# Altium footprint library IC_SMD_QUAD.PCBLIB: 135 footprints (part 6 of 9)
Each footprint in its own frame and in the unit in brackets; x right, y up, seen from the top. Pads: shape width x height; smd on the part's side, far side on the other; paste and mask are expansions set on the pad; w line width, h text height; cw(c..) or ccw(c..) is an arc to the next point about the centre after c.
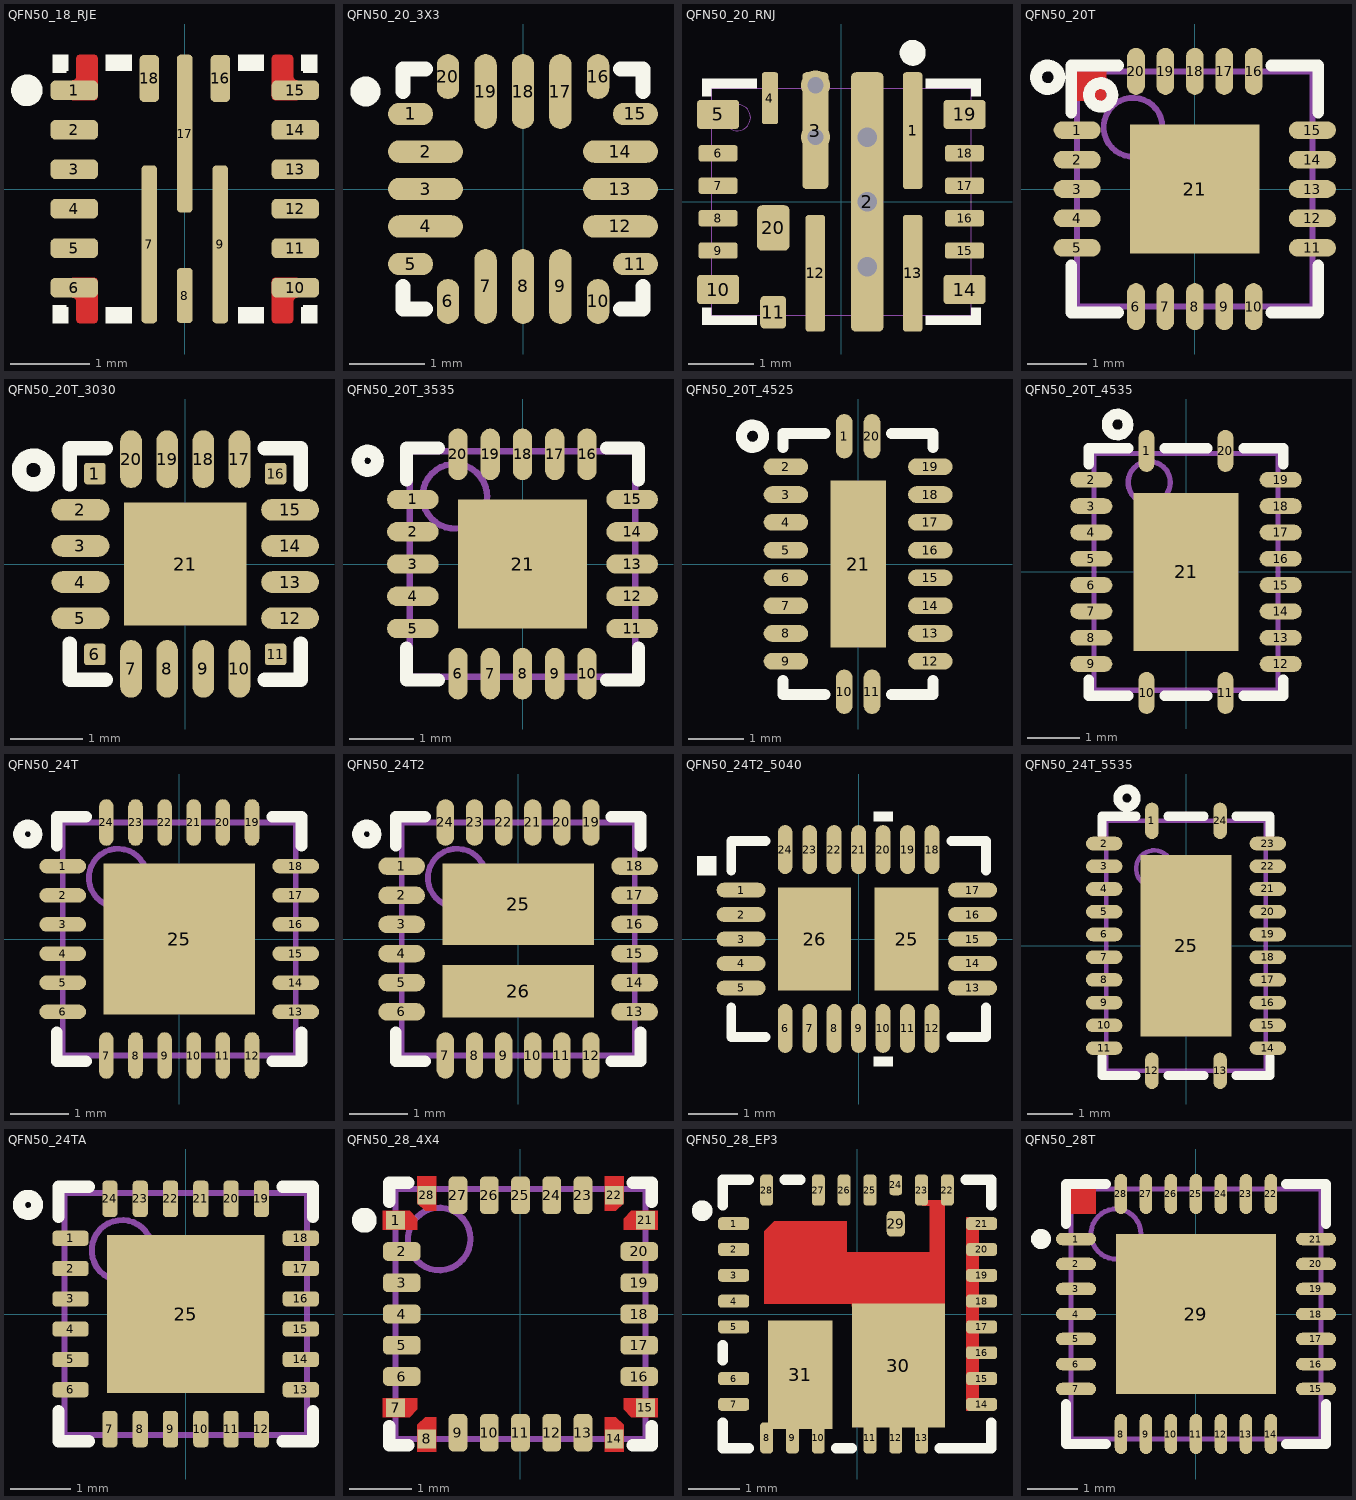
[diagram p5: the footprints below, top view; thin cyan lines are the x and y axes]

## QFN50_18_RJE [mm] "VQFN RJE, 18-Leads, Body 3x3mm, Pitch 0.50mm"
height 1
pads (18):
  rrect50% 0.6x0.25 smd paste-0.025 mask+0.05: 1(-1.4,1.25) 2(-1.4,0.75) 3(-1.4,0.25) 4(-1.4,-0.25) 5(-1.4,-0.75) 6(-1.4,-1.25) 10(1.4,-1.25) 11(1.4,-0.75) 12(1.4,-0.25) 13(1.4,0.25) 14(1.4,0.75) 15(1.4,1.25)
  rrect50% 0.2x2 smd mask+0.05: 7(-0.45,-0.701) 9(0.45,-0.701) 17(0,0.701)
  rrect50% 0.2x0.7 smd mask+0.05: 8(0,-1.349)
  rrect50% 0.25x0.6 smd paste-0.025 mask+0.05: 16(0.45,1.4) 18(-0.45,1.4)
TopLayer:
  region: -1.425,1.125 -1.15,1.125 -1.14,1.125 -1.122,1.133 -1.108,1.147 -1.1,1.165 -1.1,1.175 -1.1,1.65 -1.1,1.66 -1.108,1.678 -1.122,1.692 -1.14,1.7 -1.15,1.7 -1.325,1.7 -1.335,1.7 -1.353,1.692 -1.367,1.678 -1.375,1.66 -1.375,1.65 -1.375,1.425 -1.376,1.415 -1.383,1.397 -1.397,1.383 -1.415,1.376 -1.425,1.375
  region: 1.425,1.125 1.15,1.125 1.14,1.125 1.122,1.133 1.108,1.147 1.1,1.165 1.1,1.175 1.1,1.65 1.1,1.66 1.108,1.678 1.122,1.692 1.14,1.7 1.15,1.7 1.325,1.7 1.335,1.7 1.353,1.692 1.367,1.678 1.375,1.66 1.375,1.65 1.375,1.425 1.376,1.415 1.383,1.397 1.397,1.383 1.415,1.376 1.425,1.375
  region: -1.425,-1.125 -1.15,-1.125 -1.14,-1.125 -1.122,-1.133 -1.108,-1.147 -1.1,-1.165 -1.1,-1.175 -1.1,-1.65 -1.1,-1.66 -1.108,-1.678 -1.122,-1.692 -1.14,-1.7 -1.15,-1.7 -1.325,-1.7 -1.335,-1.7 -1.353,-1.692 -1.367,-1.678 -1.375,-1.66 -1.375,-1.65 -1.375,-1.425 -1.376,-1.415 -1.383,-1.397 -1.397,-1.383 -1.415,-1.376 -1.425,-1.375
  region: 1.425,-1.125 1.15,-1.125 1.14,-1.125 1.122,-1.133 1.108,-1.147 1.1,-1.165 1.1,-1.175 1.1,-1.65 1.1,-1.66 1.108,-1.678 1.122,-1.692 1.14,-1.7 1.15,-1.7 1.325,-1.7 1.335,-1.7 1.353,-1.692 1.367,-1.678 1.375,-1.66 1.375,-1.65 1.375,-1.425 1.376,-1.415 1.383,-1.397 1.397,-1.383 1.415,-1.376 1.425,-1.375
TopOverlay:
  circle w0.2: c-2,1.25 r0.1
  region: -1.475,1.5 -1.475,1.7 -1.675,1.7 -1.675,1.475 -1.5,1.475 -1.5,1.5
  region: 1.475,1.5 1.475,1.7 1.675,1.7 1.675,1.475 1.5,1.475 1.5,1.5
  region: -1.475,-1.5 -1.475,-1.7 -1.675,-1.7 -1.675,-1.475 -1.5,-1.475 -1.5,-1.5
  region: 1.475,-1.5 1.475,-1.7 1.675,-1.7 1.675,-1.475 1.5,-1.475 1.5,-1.5
  region: -1,1.7 -0.675,1.7 -0.675,1.5 -1,1.5
  region: 1,1.7 0.675,1.7 0.675,1.5 1,1.5
  region: -1,-1.7 -0.675,-1.7 -0.675,-1.5 -1,-1.5
  region: 1,-1.7 0.675,-1.7 0.675,-1.5 1,-1.5
TopPaste:
  region: -1.125,1.25 -1.125,1.625 -1.125,1.635 -1.133,1.653 -1.147,1.667 -1.165,1.675 -1.175,1.675 -1.3,1.675 -1.31,1.675 -1.328,1.667 -1.342,1.653 -1.35,1.635 -1.35,1.625 -1.35,1.375 -1.35,1.37 -1.354,1.361 -1.361,1.354 -1.37,1.35 -1.375,1.35 -1.375,1.25
  region: 1.125,1.25 1.125,1.625 1.125,1.635 1.133,1.653 1.147,1.667 1.165,1.675 1.175,1.675 1.3,1.675 1.31,1.675 1.328,1.667 1.342,1.653 1.35,1.635 1.35,1.625 1.35,1.375 1.35,1.37 1.354,1.361 1.361,1.354 1.37,1.35 1.375,1.35 1.375,1.25
  region: -1.125,-1.25 -1.125,-1.625 -1.125,-1.635 -1.133,-1.653 -1.147,-1.667 -1.165,-1.675 -1.175,-1.675 -1.3,-1.675 -1.31,-1.675 -1.328,-1.667 -1.342,-1.653 -1.35,-1.635 -1.35,-1.625 -1.35,-1.375 -1.35,-1.37 -1.354,-1.361 -1.361,-1.354 -1.37,-1.35 -1.375,-1.35 -1.375,-1.25
  region: 1.125,-1.25 1.125,-1.625 1.125,-1.635 1.133,-1.653 1.147,-1.667 1.165,-1.675 1.175,-1.675 1.3,-1.675 1.31,-1.675 1.328,-1.667 1.342,-1.653 1.35,-1.635 1.35,-1.625 1.35,-1.375 1.35,-1.37 1.354,-1.361 1.361,-1.354 1.37,-1.35 1.375,-1.35 1.375,-1.25
TopSolder:
  region: -1.175,1.075 -1.15,1.075 -1.104,1.094 -1.069,1.129 -1.05,1.175 -1.05,1.2 -1.05,1.65 -1.05,1.67 -1.065,1.707 -1.093,1.735 -1.13,1.75 -1.15,1.75 -1.325,1.75 -1.345,1.75 -1.382,1.735 -1.41,1.707 -1.425,1.67 -1.425,1.65 -1.425,1.5 -1.426,1.485 -1.438,1.458 -1.458,1.438 -1.485,1.426 -1.5,1.425 -1.5,1.075
  region: 1.175,1.075 1.15,1.075 1.104,1.094 1.069,1.129 1.05,1.175 1.05,1.2 1.05,1.65 1.05,1.67 1.065,1.707 1.093,1.735 1.13,1.75 1.15,1.75 1.325,1.75 1.345,1.75 1.382,1.735 1.41,1.707 1.425,1.67 1.425,1.65 1.425,1.5 1.426,1.485 1.438,1.458 1.458,1.438 1.485,1.426 1.5,1.425 1.5,1.075
  region: -1.175,-1.075 -1.15,-1.075 -1.104,-1.094 -1.069,-1.129 -1.05,-1.175 -1.05,-1.2 -1.05,-1.65 -1.05,-1.67 -1.065,-1.707 -1.093,-1.735 -1.13,-1.75 -1.15,-1.75 -1.325,-1.75 -1.345,-1.75 -1.382,-1.735 -1.41,-1.707 -1.425,-1.67 -1.425,-1.65 -1.425,-1.5 -1.426,-1.485 -1.438,-1.458 -1.458,-1.438 -1.485,-1.426 -1.5,-1.425 -1.5,-1.075
  region: 1.175,-1.075 1.15,-1.075 1.104,-1.094 1.069,-1.129 1.05,-1.175 1.05,-1.2 1.05,-1.65 1.05,-1.67 1.065,-1.707 1.093,-1.735 1.13,-1.75 1.15,-1.75 1.325,-1.75 1.345,-1.75 1.382,-1.735 1.41,-1.707 1.425,-1.67 1.425,-1.65 1.425,-1.5 1.426,-1.485 1.438,-1.458 1.458,-1.438 1.485,-1.426 1.5,-1.425 1.5,-1.075
3D body "RJE0018B.stp": height 1, standoff 0, extent -1.5,-1.5 1.5,1.5

## QFN50_20_3X3 [mm] "UFQFPN20, pitch: 0.5mm, 3x3mm"
height 0.6
pads (20):
  oval 0.6x0.3 smd paste+0 mask+0: 1(-1.499,1) 5(-1.499,-1) 11(1.499,-1) 15(1.499,1)
  oval 1x0.3 smd paste+0 mask+0: 2(-1.3,0.5) 3(-1.3,0) 4(-1.3,-0.5) 12(1.3,-0.5) 13(1.3,0) 14(1.3,0.5)
  oval 0.3x0.6 smd paste+0 mask+0: 6(-1,-1.499) 10(1,-1.499) 16(1,1.499) 20(-1,1.499)
  oval 0.3x1 smd paste+0 mask+0: 7(-0.5,-1.3) 8(0,-1.3) 9(0.5,-1.3) 17(0.5,1.3) 18(0,1.3) 19(-0.5,1.3)
TopOverlay:
  circle w0.2: c-2.1,1.3 r0.1
  lines w0.2: -1.6,-1.3 -1.6,-1.6 -1.3,-1.6 ; -1.6,1.3 -1.6,1.6 -1.3,1.6 ; 1.3,-1.6 1.6,-1.6 1.6,-1.3 ; 1.3,1.6 1.6,1.6 1.6,1.3
3D body "UFQFPN20_3x3x0p6-M.step": height 0.61, standoff 0, extent -1.499,-1.499 1.499,1.499

## QFN50_20_RNJ [mm] "VQFN RNJ, 20-Leads, Body 3.5x4mm, Pitch 0.50mm"
height 4.4
pads (20):
  rrect30% 0.3x1.8 smd mask+0.05: 1(1.1,1.1) 12(-0.4,-1.1) 13(1.1,-1.1)
  rrect30% 0.5x4 smd mask+0.05: 2(0.4,0)
  rrect30% 0.4x1.8 smd mask+0.05: 3(-0.4,1.1)
  rrect30% 0.25x0.8 smd mask+0.05: 4(-1.1,1.6)
  rrect25% 0.65x0.45 smd mask+0.05: 5(-1.9,1.35) 10(-1.9,-1.35) 14(1.9,-1.35) 19(1.9,1.35)
  rrect30% 0.6x0.25 smd mask+0.05: 6(-1.9,0.75) 7(-1.9,0.25) 8(-1.9,-0.25) 9(-1.9,-0.75) 15(1.9,-0.75) 16(1.9,-0.25) 17(1.9,0.25) 18(1.9,0.75)
  rrect30% 0.4x0.5 smd mask+0.05: 11(-1.05,-1.7)
  rrect30% 0.5x0.7 smd mask+0.05: 20(-1.05,-0.4)
via 0.4,-1 diameter 0.5 hole 0.3
via 0.4,0 diameter 0.5 hole 0.3
via 0.4,1 diameter 0.5 hole 0.3
via -0.4,1 diameter 0.45 hole 0.25
via -0.4,1.8 diameter 0.45 hole 0.25
TopOverlay:
  circle w0.2: c1.1,2.3 r0.1
  rectangle: 1.3,-1.9 2.15,-1.75
  rectangle: 2,-1.9 2.15,-1.625
  region: -1.3,-1.75 -2.15,-1.75 -2.15,-1.9 -1.3,-1.9
  region: -2,-1.625 -2.15,-1.625 -2.15,-1.9 -2,-1.9
  region: -1.3,1.9 -2.15,1.9 -2.15,1.75 -1.3,1.75
  region: -2,1.9 -2.15,1.9 -2.15,1.625 -2,1.625
  rectangle: 2,1.625 2.15,1.9
  rectangle: 1.3,1.75 2.15,1.9
Mechanical13:
  circle w0.01: c-1.6,1.3 r0.2
  lines w0.01: -2,-1.75 -2,1.75 2,1.75 2,-1.75 -2,-1.75
3D body "RNJ0020A.stp": height 1, standoff 0, extent -2,-1.75 2,1.75

## QFN50_20T [mm] "QFN, 20, 4X4mm, 0.5mm"
height 1
pads (21):
  oval 0.8x0.3 smd mask+0.05: 1(-2,1) 2(-2,0.5) 3(-2,0) 4(-2,-0.5) 5(-2,-1) 11(2,-1) 12(2,-0.5) 13(2,0) 14(2,0.5) 15(2,1)
  oval 0.3x0.8 smd mask+0.05: 6(-1,-2) 7(-0.5,-2) 8(0,-2) 9(0.5,-2) 10(1,-2) 16(1,2) 17(0.5,2) 18(0,2) 19(-0.5,2) 20(-1,2)
  rect 2.2x2.2 smd paste-2 mask+0.1: 21(0,0)
TopLayer:
  rectangle: -2,1.5 -1.5,2
TopOverlay:
  circle w0.2: c-2.5,1.9 r0.2
  circle w0.2: c-1.6,1.6 r0.2
  lines w0.2: -2.1,-1.3 -2.1,-2.1 -1.3,-2.1 ; -2.1,1.3 -2.1,2.1 -1.3,2.1 ; 1.3,-2.1 2.1,-2.1 2.1,-1.3 ; 1.3,2.1 2.1,2.1 2.1,1.3
TopPaste:
  rectangle: -1,0.2 -0.2,1
  region: 1,1 0.2,1 0.2,0.2 1,0.2
  region: 1,-0.2 0.2,-0.2 0.2,-1 1,-1
  rectangle: -1,-1 -0.2,-0.2
Mechanical13:
  circle w0.1: c-1.05,1.05 r0.5
  lines w0.1: -2,-2 2,-2 2,2 -2,2 -2,-2
3D body: height 1, standoff 0, extent -2,-2 2,2

## QFN50_20T_3030 [mm] "QFN20, pitch: 0.5mm, 3x3mm"
height 0.6
pads (21):
  rrect30% 0.3x0.3 smd mask+0.05: 1(-1.25,1.25) 6(-1.25,-1.25) 11(1.25,-1.25) 16(1.25,1.25)
  oval 0.8x0.3 smd mask+0.05: 2(-1.45,0.75) 3(-1.45,0.25) 4(-1.45,-0.25) 5(-1.45,-0.75) 12(1.45,-0.75) 13(1.45,-0.25) 14(1.45,0.25) 15(1.45,0.75)
  oval 0.3x0.8 smd mask+0.05: 7(-0.75,-1.45) 8(-0.25,-1.45) 9(0.25,-1.45) 10(0.75,-1.45) 17(0.75,1.45) 18(0.25,1.45) 19(-0.25,1.45) 20(-0.75,1.45)
  rect 1.7x1.7 smd paste-3 mask+0.05: 21(0,0)
TopOverlay:
  circle w0.2: c-2.1,1.3 r0.2
  lines w0.2: -1.6,-1.1 -1.6,-1.6 -1.1,-1.6 ; -1.6,1.1 -1.6,1.6 -1.1,1.6 ; 1.1,-1.6 1.6,-1.6 1.6,-1.1 ; 1.1,1.6 1.6,1.6 1.6,1.1
TopPaste:
  rectangle: -0.5,-0.5 0.5,0.5
3D body "SW3dPS-QFN-20.STEP": height 0.62, standoff -0.08, extent -1.5,-1.5 1.5,1.5

## QFN50_20T_3535 [mm] "QFN, 20, RGR, VQFN, 3.5X3.5mm, 0.5mm"
height 1
pads (21):
  oval 0.8x0.3 smd mask+0.05: 1(-1.7,1) 2(-1.7,0.5) 3(-1.7,0) 4(-1.7,-0.5) 5(-1.7,-1) 11(1.7,-1) 12(1.7,-0.5) 13(1.7,0) 14(1.7,0.5) 15(1.7,1)
  oval 0.3x0.8 smd mask+0.05: 6(-1,-1.7) 7(-0.5,-1.7) 8(0,-1.7) 9(0.5,-1.7) 10(1,-1.7) 16(1,1.7) 17(0.5,1.7) 18(0,1.7) 19(-0.5,1.7) 20(-1,1.7)
  rect 2x2 smd paste-3 mask+0.075: 21(0,0)
TopOverlay:
  circle w0.2: c-2.4,1.6 r0.15
  lines w0.2: -1.8,-1.3 -1.8,-1.8 -1.3,-1.8 ; -1.8,1.3 -1.8,1.8 -1.3,1.8 ; 1.3,-1.8 1.8,-1.8 1.8,-1.3 ; 1.3,1.8 1.8,1.8 1.8,1.3
TopPaste:
  rectangle: -0.8,0.1 -0.1,0.8
  region: 0.8,0.8 0.1,0.8 0.1,0.1 0.8,0.1
  region: 0.8,-0.1 0.1,-0.1 0.1,-0.8 0.8,-0.8
  rectangle: -0.8,-0.8 -0.1,-0.1
Mechanical13:
  circle w0.1: c-1.05,1.05 r0.5
  lines w0.1: -1.75,-1.75 1.75,-1.75 1.75,1.75 -1.75,1.75 -1.75,-1.75
3D body "RGR0020A.stp": height 1, standoff 0, extent -1.75,-1.75 1.75,1.75

## QFN50_20T_4525 [mm] "RKS VQFN-20, 0.5mm Pitch, 4.5x2.5x1mm"
height 1
pads (21):
  oval 0.3x0.8 smd mask+0.075: 1(-0.25,2.3) 10(-0.25,-2.3) 11(0.25,-2.3) 20(0.25,2.3)
  oval 0.8x0.3 smd mask+0.075: 2(-1.3,1.75) 3(-1.3,1.25) 4(-1.3,0.75) 5(-1.3,0.25) 6(-1.3,-0.25) 7(-1.3,-0.75) 8(-1.3,-1.25) 9(-1.3,-1.75) 12(1.3,-1.75) 13(1.3,-1.25) 14(1.3,-0.75) 15(1.3,-0.25) 16(1.3,0.25) 17(1.3,0.75) 18(1.3,1.25) 19(1.3,1.75)
  rect 1x3 smd paste-3 mask+0.1: 21(0,0)
TopOverlay:
  circle w0.2: c-1.9,2.3 r0.2
  lines w0.2: -1.35,-2.1 -1.35,-2.35 -0.6,-2.35 ; -1.35,2.1 -1.35,2.35 -0.6,2.35 ; 0.6,-2.35 1.35,-2.35 1.35,-2.1 ; 0.6,2.35 1.35,2.35 1.35,2.1
TopPaste:
  rectangle: -0.4,-1.4 0.4,-0.2
  rectangle: -0.4,0.2 0.4,1.4
3D body "RKS0020A.stp": height 1, standoff 0, extent -1.25,-2.25 1.25,2.25

## QFN50_20T_4535 [mm] "RGY VQFN-20, 0.5mm Pitch, 4.5x3.5x1mm"
height 1
pads (21):
  oval 0.3x0.8 smd mask+0.05: 1(-0.75,2.3) 10(-0.75,-2.3) 11(0.75,-2.3) 20(0.75,2.3)
  oval 0.8x0.3 smd mask+0.05: 2(-1.8,1.75) 3(-1.8,1.25) 4(-1.8,0.75) 5(-1.8,0.25) 6(-1.8,-0.25) 7(-1.8,-0.75) 8(-1.8,-1.25) 9(-1.8,-1.75) 12(1.8,-1.75) 13(1.8,-1.25) 14(1.8,-0.75) 15(1.8,-0.25) 16(1.8,0.25) 17(1.8,0.75) 18(1.8,1.25) 19(1.8,1.75)
  rect 2x3 smd paste-3 mask+0.1: 21(0,0)
TopOverlay:
  circle w0.2: c-1.3,2.8 r0.2
  lines w0.2: -1.85,-2.05 -1.85,-2.35 -1.1,-2.35 ; -1.85,2.05 -1.85,2.35 -1.1,2.35 ; -0.4,-2.35 0.4,-2.35 ; -0.4,2.35 0.4,2.35 ; 1.1,-2.35 1.85,-2.35 1.85,-2.05 ; 1.1,2.35 1.85,2.35 1.85,2.05
TopPaste:
  rectangle: -0.9,-1.4 -0.2,-0.2
  region: 0.9,-0.2 0.2,-0.2 0.2,-1.4 0.9,-1.4
  region: 0.9,1.4 0.2,1.4 0.2,0.2 0.9,0.2
  rectangle: -0.9,0.2 -0.2,1.4
Mechanical13:
  circle w0.1: c-0.7,1.7 r0.4
  lines w0.1: -1.75,-2.25 1.75,-2.25 1.75,2.25 -1.75,2.25 -1.75,-2.25
3D body "RGY0020G.stp": height 1, standoff 0, extent -1.75,-2.25 1.75,2.25

## QFN50_24T [mm] "RTW, RGE S-PQFP-N24 (TI), HVQFN24, 4X4mm, 0.5mm, MO-220 (JEDEC)"
height 1
pads (25):
  oval 0.8x0.25 smd mask+0.05: 1(-2,1.25) 2(-2,0.75) 3(-2,0.25) 4(-2,-0.25) 5(-2,-0.75) 6(-2,-1.25) 13(2,-1.25) 14(2,-0.75) 15(2,-0.25) 16(2,0.25) 17(2,0.75) 18(2,1.25)
  oval 0.25x0.8 smd mask+0.05: 7(-1.25,-2) 8(-0.75,-2) 9(-0.25,-2) 10(0.25,-2) 11(0.75,-2) 12(1.25,-2) 19(1.25,2) 20(0.75,2) 21(0.25,2) 22(-0.25,2) 23(-0.75,2) 24(-1.25,2)
  rect 2.6x2.6 smd paste-2 mask+0.05: 25(0,0)
TopOverlay:
  circle w0.2: c-2.6,1.8 r0.15
  lines w0.2: -2.1,-1.6 -2.1,-2.1 -1.6,-2.1 ; -2.1,1.6 -2.1,2.1 -1.6,2.1 ; 1.6,-2.1 2.1,-2.1 2.1,-1.6 ; 1.6,2.1 2.1,2.1 2.1,1.6
TopPaste:
  rectangle: -1.1,0.2 -0.2,1.1
  region: 1.1,1.1 0.2,1.1 0.2,0.2 1.1,0.2
  region: 1.1,-0.2 0.2,-0.2 0.2,-1.1 1.1,-1.1
  rectangle: -1.1,-1.1 -0.2,-0.2
Mechanical13:
  circle w0.1: c-1.05,1.05 r0.5
  lines w0.1: -2,-2 2,-2 2,2 -2,2 -2,-2
3D body "RTW0024H.stp": height 0.8, standoff 0, extent -2,-2 2,2

## QFN50_24T2 [mm] "MO-220-WGGD (JEDEC), LFCSP_WQ, CP - 24 - 12, ADP2386 (AD)"
height 1
pads (26):
  oval 0.8x0.3 smd mask+0.05: 1(-2,1.25) 2(-2,0.75) 3(-2,0.25) 4(-2,-0.25) 5(-2,-0.75) 6(-2,-1.25) 13(2,-1.25) 14(2,-0.75) 15(2,-0.25) 16(2,0.25) 17(2,0.75) 18(2,1.25)
  oval 0.3x0.8 smd mask+0.05: 7(-1.25,-2) 8(-0.75,-2) 9(-0.25,-2) 10(0.25,-2) 11(0.75,-2) 12(1.25,-2) 19(1.25,2) 20(0.75,2) 21(0.25,2) 22(-0.25,2) 23(-0.75,2) 24(-1.25,2)
  rect 2.6x1.4 smd paste-3 mask+0.05: 25(0,0.6)
  rect 2.6x0.9 smd paste-3 mask+0.05: 26(0,-0.9)
TopOverlay:
  circle w0.2: c-2.6,1.8 r0.15
  lines w0.2: -2.1,-1.6 -2.1,-2.1 -1.6,-2.1 ; -2.1,1.6 -2.1,2.1 -1.6,2.1 ; 1.6,-2.1 2.1,-2.1 2.1,-1.6 ; 1.6,2.1 2.1,2.1 2.1,1.6
TopPaste:
  rectangle: -1.2,-1.2 -0.2,-0.5
  region: 1.2,-0.5 0.2,-0.5 0.2,-1.2 1.2,-1.2
  region: 1.2,1.2 0.2,1.2 0.2,0 1.2,0
  rectangle: -1.2,0 -0.2,1.2
Mechanical13:
  circle w0.1: c-1.05,1.05 r0.5
  lines w0.1: -2,-2 2,-2 2,2 -2,2 -2,-2
3D body: height 1, standoff 0, extent -2,-2 2,2

## QFN50_24T2_5040 [mm] "CP-24-4, QFN-24, 0.5mm pitch, 5x4x1.5mm"
height 1.5
pads (26):
  oval 1x0.3 smd mask+0.05: 1(-2.4,1) 2(-2.4,0.5) 3(-2.4,0) 4(-2.4,-0.5) 5(-2.4,-1) 13(2.327,-1) 14(2.327,-0.5) 15(2.327,0) 16(2.327,0.5) 17(2.327,1)
  oval 0.3x1 smd mask+0.05: 6(-1.5,-1.827) 7(-1,-1.827) 8(-0.5,-1.827) 9(0,-1.827) 10(0.5,-1.827) 11(1,-1.827) 12(1.5,-1.827) 18(1.5,1.827) 19(1,1.827) 20(0.5,1.827) 21(0,1.827) 22(-0.5,1.827) 23(-1,1.827) 24(-1.5,1.827)
  rect 1.3x2.1 smd paste-3 mask+0.05: 25(0.98,0)
  rect 1.5x2.1 smd paste-3 mask+0.05: 26(-0.9,0)
TopOverlay:
  rectangle: -3.3,1.3 -2.9,1.7
  rectangle: 0.3,-2.6 0.7,-2.4
  rectangle: 0.3,2.4 0.7,2.6
  lines w0.2: -2.6,-1.4 -2.6,-2 -1.9,-2 ; -2.6,1.4 -2.6,2 -1.9,2 ; 1.9,-2 2.6,-2 2.6,-1.4 ; 1.9,2 2.6,2 2.6,1.4
TopPaste:
  rectangle: -0.8,0.2 -0.2,1
  rectangle: -1.6,0.2 -1,1
  rectangle: -1.6,-1 -1,-0.2
  rectangle: -0.8,-1 -0.2,-0.2
  region: 1.5,-0.2 0.5,-0.2 0.5,-1 1.5,-1
  region: 1.5,1 0.5,1 0.5,0.2 1.5,0.2
3D body "cp_24_4.step": height 1.4, standoff 0, extent -2.5,-2 2.5,2

## QFN50_24T_5535 [mm] "RGY RHL VQFN-24, 0.5mm Pitch, 5.5x3.5x1mm"
height 1
pads (25):
  oval 0.3x0.8 smd paste-0.05 mask+0.05: 1(-0.75,2.75) 12(-0.75,-2.75) 13(0.75,-2.75) 24(0.75,2.75)
  oval 0.8x0.3 smd mask-2539.97: 2(-1.8,2.25) 3(-1.8,1.75) 4(-1.8,1.25) 5(-1.8,0.75) 6(-1.8,0.25) 7(-1.8,-0.25) 8(-1.8,-0.75) 9(-1.8,-1.25) 10(-1.8,-1.75) 11(-1.8,-2.25) 14(1.8,-2.25) 15(1.8,-1.75) 16(1.8,-1.25) 17(1.8,-0.75) 18(1.8,-0.25) 19(1.8,0.25) 20(1.8,0.75) 21(1.8,1.25) 22(1.8,1.75) 23(1.8,2.25)
  rect 2x4 smd paste-3 mask+0.05: 25(0,0)
TopOverlay:
  circle w0.2: c-1.3,3.25 r0.2
  lines w0.2: -1.85,-2.45 -1.85,-2.85 -1.1,-2.85 ; -1.85,2.45 -1.85,2.85 -1.1,2.85 ; -0.4,-2.85 0.4,-2.85 ; -0.4,2.85 0.4,2.85 ; 1.1,-2.85 1.85,-2.85 1.85,-2.45 ; 1.1,2.85 1.85,2.85 1.85,2.45
TopPaste:
  region: 0.95,-0.887 0.635,-0.887 0.494,-1.029 0.494,-1.475 0.95,-1.475
  region: 0.95,-0.1 0.635,-0.1 0.494,-0.241 0.494,-0.546 0.635,-0.687 0.95,-0.687
  region: 0.95,0.687 0.635,0.687 0.494,0.546 0.494,0.241 0.635,0.1 0.95,0.1
  region: 0.95,1.475 0.494,1.475 0.494,1.029 0.635,0.887 0.95,0.887
  region: 0.152,-0.887 -0.152,-0.887 -0.294,-1.029 -0.294,-1.475 0.294,-1.475 0.294,-1.029
  region: 0.152,-0.1 -0.152,-0.1 -0.294,-0.241 -0.294,-0.546 -0.152,-0.687 0.152,-0.687 0.294,-0.546 0.294,-0.241
  region: 0.152,0.687 -0.152,0.687 -0.294,0.546 -0.294,0.241 -0.152,0.1 0.152,0.1 0.294,0.241 0.294,0.546
  region: 0.294,1.475 -0.294,1.475 -0.294,1.029 -0.152,0.887 0.152,0.887 0.294,1.029
  region: -0.635,-0.887 -0.95,-0.887 -0.95,-1.475 -0.494,-1.475 -0.494,-1.029
  region: -0.635,-0.1 -0.95,-0.1 -0.95,-0.687 -0.635,-0.687 -0.494,-0.546 -0.494,-0.241
  region: -0.635,0.687 -0.95,0.687 -0.95,0.1 -0.635,0.1 -0.494,0.241 -0.494,0.546
  region: -0.494,1.475 -0.95,1.475 -0.95,0.887 -0.635,0.887 -0.494,1.029
  region: 0,-1.55
  region: 0,-1.55
  region: 0,1.55
  region: 0,1.55
TopSolder:
  lines w0.35: -2.075,-2.25 -1.525,-2.25 ; -2.075,-1.75 -1.525,-1.75 ; -2.075,-1.25 -1.525,-1.25 ; -2.075,-0.75 -1.525,-0.75 ; -2.075,-0.25 -1.525,-0.25 ; -2.075,0.25 -1.525,0.25 ; -2.075,0.75 -1.525,0.75 ; -2.075,1.25 -1.525,1.25 ; -2.075,1.75 -1.525,1.75 ; -2.075,2.25 -1.525,2.25 ; 1.525,-2.25 2.075,-2.25 ; 1.525,-1.75 2.075,-1.75 ; 1.525,-1.25 2.075,-1.25 ; 1.525,-0.75 2.075,-0.75 ; 1.525,-0.25 2.075,-0.25 ; 1.525,0.25 2.075,0.25 ; 1.525,0.75 2.075,0.75 ; 1.525,1.25 2.075,1.25 ; 1.525,1.75 2.075,1.75 ; 1.525,2.25 2.075,2.25
Mechanical13:
  circle w0.1: c-0.7,1.7 r0.4
  lines w0.1: -1.75,-2.75 -1.75,2.75 1.75,2.75 1.75,-2.75 -1.75,-2.75
3D body "RHL0024A.stp": height 1, standoff 0, extent -1.75,-2.75 1.75,2.75

## QFN50_24TA [mm] "RTW, RGE S-PQFP-N24 (TI), HVQFN24, 4X4mm, 0.5mm"
height 1
pads (25):
  rrect50% 0.6x0.25 smd mask+0.05: 1(-1.9,1.25) 2(-1.9,0.75) 3(-1.9,0.25) 4(-1.9,-0.25) 5(-1.9,-0.75) 6(-1.9,-1.25) 13(1.9,-1.25) 14(1.9,-0.75) 15(1.9,-0.25) 16(1.9,0.25) 17(1.9,0.75) 18(1.9,1.25)
  rrect50% 0.25x0.6 smd mask+0.05: 7(-1.25,-1.9) 8(-0.75,-1.9) 9(-0.25,-1.9) 10(0.25,-1.9) 11(0.75,-1.9) 12(1.25,-1.9) 19(1.25,1.9) 20(0.75,1.9) 21(0.25,1.9) 22(-0.25,1.9) 23(-0.75,1.9) 24(-1.25,1.9)
  rect 2.6x2.6 smd paste-2 mask+0.05: 25(0,0)
TopOverlay:
  circle w0.2: c-2.6,1.8 r0.15
  lines w0.2: -2.1,-1.6 -2.1,-2.1 -1.6,-2.1 ; -2.1,1.6 -2.1,2.1 -1.6,2.1 ; 1.6,-2.1 2.1,-2.1 2.1,-1.6 ; 1.6,2.1 2.1,2.1 2.1,1.6
TopPaste:
  rectangle: -1.1,0.2 -0.2,1.1
  region: 1.1,1.1 0.2,1.1 0.2,0.2 1.1,0.2
  region: 1.1,-0.2 0.2,-0.2 0.2,-1.1 1.1,-1.1
  rectangle: -1.1,-1.1 -0.2,-0.2
Mechanical13:
  circle w0.1: c-1.05,1.05 r0.5
  lines w0.1: -2,-2 2,-2 2,2 -2,2 -2,-2
3D body "RTW0024H.stp": height 0.8, standoff 0, extent -2,-2 2,2

## QFN50_28_4X4 [mm] "UFQFPN-28, 28, 4X4mm, 0.5mm pitch"
height 1
pads (28):
  rect 0.3x0.3 smd paste-0.15 mask+0: 1(-2,1.5) 7(-2,-1.5) 8(-1.5,-2) 14(1.5,-2) 15(2,-1.5) 21(2,1.5) 22(1.5,1.9) 28(-1.5,1.9)
  rrect50% 0.6x0.3 smd paste-0.025 mask+0.05: 2(-1.9,1) 3(-1.9,0.5) 4(-1.9,0) 5(-1.9,-0.5) 6(-1.9,-1) 16(1.9,-1) 17(1.9,-0.5) 18(1.9,0) 19(1.9,0.5) 20(1.9,1)
  rrect50% 0.3x0.6 smd paste-0.025 mask+0.05: 9(-1,-1.9) 10(-0.5,-1.9) 11(0,-1.9) 12(0.5,-1.9) 13(1,-1.9) 23(1,1.9) 24(0.5,1.9) 25(0,1.9) 26(-0.5,1.9) 27(-1,1.9)
TopLayer:
  region: 1.65,1.525 1.775,1.65 2.2,1.65 2.2,1.35 1.65,1.35
  region: 1.35,2.2 1.65,2.2 1.65,1.775 1.525,1.65 1.35,1.65
  region: 1.35,-2.2 1.65,-2.2 1.65,-1.775 1.525,-1.65 1.35,-1.65
  region: 1.65,-1.525 1.775,-1.65 2.2,-1.65 2.2,-1.35 1.65,-1.35
  region: -1.65,1.525 -1.775,1.65 -2.2,1.65 -2.2,1.35 -1.65,1.35
  region: -1.35,2.2 -1.65,2.2 -1.65,1.775 -1.525,1.65 -1.35,1.65
  region: -1.35,-2.2 -1.65,-2.2 -1.65,-1.775 -1.525,-1.65 -1.35,-1.65
  region: -1.65,-1.525 -1.775,-1.65 -2.2,-1.65 -2.2,-1.35 -1.65,-1.35
TopOverlay:
  circle w0.2: c-2.5,1.5 r0.1
  lines w0.2: -2.1,-1.8 -2.1,-2.1 -1.8,-2.1 ; -2.1,1.8 -2.1,2.1 -1.8,2.1 ; 1.8,-2.1 2.1,-2.1 2.1,-1.8 ; 1.8,2.1 2.1,2.1 2.1,1.8
Mechanical13:
  circle w0.1: c-1.3,1.2 r0.5
  lines w0.1: -2,-2 -2,2 2,2 2,-2 -2,-2
3D body "STM32G031G6U6.stp": height 0.6, standoff 0, extent -2.05,-2.05 2.05,2.05

## QFN50_28_EP3 [mm] "QFN5x5-28L EP3_S"
height 1
pads (31):
  rrect50% 0.6x0.25 smd mask+0.075: 1(-2.389,1.75) 2(-2.389,1.25) 3(-2.389,0.75) 4(-2.389,0.25) 5(-2.389,-0.25) 6(-2.389,-1.25) 7(-2.389,-1.75) 14(2.411,-1.75) 15(2.411,-1.25) 16(2.411,-0.75) 17(2.411,-0.25) 18(2.411,0.25) 19(2.411,0.75) 20(2.411,1.25) 21(2.411,1.75)
  rrect50% 0.25x0.6 smd mask+0.075: 8(-1.75,-2.4) 9(-1.25,-2.4) 10(-0.75,-2.4) 11(0.25,-2.4) 12(0.75,-2.4) 13(1.25,-2.4) 22(1.75,2.4) 23(1.25,2.4) 25(0.25,2.4) 26(-0.25,2.4) 27(-0.75,2.4) 28(-1.75,2.4)
  rrect50% 0.25x0.4 smd mask+0.075: 24(0.75,2.5)
  rrect50% 0.35x0.5 smd mask+0.075: 29(0.75,1.75)
  rect 1.8x2.4 smd paste-4 mask+0.075: 30(0.8,-1)
  rect 1.25x2.1 smd paste-4 mask+0.075: 31(-1.1,-1.175)
TopLayer:
  region: -0.1,0.15 -0.1,0.2 -1.8,0.2 -1.8,1.6 -1.6,1.8 -0.2,1.8 -0.2,1.2 1.411,1.2 1.411,2.1 1.261,2.1 1.261,2.2 1.7,2.2 1.7,0.15
  region: 2.111,1.875 2.361,1.875 2.361,-1.875 2.111,-1.875
TopOverlay:
  circle w0.2: c-3,2 r0.1
  lines w0.2: -2.6,-2.1 -2.6,-2.6 -2.1,-2.6 ; -2.6,-0.9 -2.6,-0.6 ; -2.6,2.1 -2.6,2.6 -2.1,2.6 ; -1.4,2.6 -1.1,2.6 ; -0.4,-2.6 -0.1,-2.6 ; 1.6,-2.6 2.6,-2.6 2.6,-2.1 ; 2.1,2.6 2.6,2.6 2.6,2.1
TopPaste:
  rectangle: 1.4,1.5 1.7,2
  region: -1.7,1.7 -1.7,1.1 -1.1,1.1 -1.1,1.7
  region: -1.1,0.3 -1.1,0.9 -1.7,0.9 -1.7,0.3
  region: -0.6,-1.9 -0.6,-1.4 -1,-1.4 -1,-1.9
  region: -1.2,-1.9 -1.2,-1.4 -1.6,-1.4 -1.6,-1.9
  region: -0.6,-1.2 -0.6,-0.8 -1,-0.8 -1,-1.2
  region: -1.2,-1.2 -1.2,-0.8 -1.6,-0.8 -1.6,-1.2
  rectangle: -1.6,-0.6 -1.2,-0.2
  rectangle: -1,-0.6 -0.6,-0.2
  region: -0.3,0.3 -0.3,0.9 -0.9,0.9 -0.9,0.3
  region: -0.9,1.7 -0.9,1.1 -0.3,1.1 -0.3,1.7
  rectangle: 0,0.7 0.4,1.1
  rectangle: 0,0.1 0.4,0.5
  rectangle: 0.6,0.7 1,1.1
  rectangle: 0.6,0.1 1,0.5
  rectangle: 1.2,0.7 1.6,1.1
  rectangle: 1.2,0.1 1.6,0.5
  rectangle: 1.2,-0.5 1.6,-0.1
  rectangle: 0.6,-0.5 1,-0.1
  rectangle: 0,-0.5 0.4,-0.1
  rectangle: 1.2,-1.1 1.6,-0.7
  rectangle: 0.6,-1.1 1,-0.7
  rectangle: 0,-1.1 0.4,-0.7
  rectangle: 1.2,-1.9 1.6,-1.3
  rectangle: 0.6,-1.9 1,-1.3
  rectangle: 0,-1.9 0.4,-1.3
3D body: height 1.03, standoff 1, extent -2.3,1.9 -1.9,2.3
3D body: height 1, standoff 0.05, extent -2.5,-2.5 2.5,2.5
3D body: height 0.2, standoff 0, extent 0.624,2.109 0.875,2.51
3D body: height 0.2, standoff 0, extent 1.624,2.109 1.875,2.51
3D body: height 0.2, standoff 0, extent 1.124,2.109 1.375,2.51
3D body: height 0.2, standoff 0, extent 0.124,2.109 0.375,2.51
3D body: height 0.2, standoff 0, extent -0.376,2.109 -0.125,2.51
3D body: height 0.2, standoff 0, extent -0.876,2.109 -0.625,2.51
3D body: height 0.2, standoff 0, extent -1.876,2.109 -1.625,2.51
3D body: height 0.2, standoff 0, extent 1.126,-2.51 1.377,-2.109
3D body: height 0.2, standoff 0, extent 0.626,-2.51 0.877,-2.109
3D body: height 0.2, standoff 0, extent 0.126,-2.51 0.377,-2.109
3D body: height 0.2, standoff 0, extent -0.875,-2.51 -0.624,-2.109
3D body: height 0.2, standoff 0, extent -1.375,-2.51 -1.124,-2.109
3D body: height 0.2, standoff 0, extent -1.875,-2.51 -1.624,-2.109
3D body: height 0.2, standoff 0, extent -2.509,-1.875 -2.108,-1.624
3D body: height 0.2, standoff 0, extent -2.509,-1.375 -2.108,-1.124
3D body: height 0.2, standoff 0, extent -2.509,-0.375 -2.108,-0.124
3D body: height 0.2, standoff 0, extent -2.509,0.125 -2.108,0.376
3D body: height 0.2, standoff 0, extent -2.509,0.625 -2.108,0.876
3D body: height 0.2, standoff 0, extent -2.509,1.125 -2.108,1.376
3D body: height 0.2, standoff 0, extent -2.509,1.625 -2.108,1.876
3D body: height 0.2, standoff 0, extent -1.752,-2.226 -0.486,-0.19
3D body: height 0.2, standoff 0, extent -1.746,-2.226 1.875,2.5
3D body: height 0.2, standoff 0, extent 2.1,-1.876 2.501,1.875
3D body: height 0.2, standoff 0, extent 0.578,1.501 0.924,2.003

## QFN50_28T [mm] "QFN, 28, 5X5mm, 0.5mm"
height 1
pads (29):
  oval 0.8x0.25 smd mask+0.075: 1(-2.4,1.5) 2(-2.4,1) 3(-2.4,0.5) 4(-2.4,0) 5(-2.4,-0.5) 6(-2.4,-1) 7(-2.4,-1.5) 15(2.4,-1.5) 16(2.4,-1) 17(2.4,-0.5) 18(2.4,0) 19(2.4,0.5) 20(2.4,1) 21(2.4,1.5)
  oval 0.25x0.8 smd mask+0.075: 8(-1.5,-2.4) 9(-1,-2.4) 10(-0.5,-2.4) 11(0,-2.4) 12(0.5,-2.4) 13(1,-2.4) 14(1.5,-2.4) 22(1.5,2.4) 23(1,2.4) 24(0.5,2.4) 25(0,2.4) 26(-0.5,2.4) 27(-1,2.4) 28(-1.5,2.4)
  rect 3.2x3.2 smd paste-3 mask+0.075: 29(0,0)
TopLayer:
  rectangle: -2.5,2 -2,2.5
TopOverlay:
  circle w0.2: c-3.1,1.5 r0.1
  lines w0.2: -2.6,-1.8 -2.6,-2.6 -1.8,-2.6 ; -2.6,1.8 -2.6,2.6 -1.8,2.6 ; 1.8,-2.6 2.6,-2.6 2.6,-1.8 ; 1.8,2.6 2.6,2.6 2.6,1.8
TopPaste:
  rectangle: -1.4,0.2 -0.2,1.4
  region: 1.4,1.4 0.2,1.4 0.2,0.2 1.4,0.2
  region: 1.4,-0.2 0.2,-0.2 0.2,-1.4 1.4,-1.4
  rectangle: -1.4,-1.4 -0.2,-0.2
Mechanical13:
  circle w0.1: c-1.6,1.6 r0.5
  lines w0.1: -2.5,-2.5 -2.5,2.5 2.5,2.5 2.5,-2.5 -2.5,-2.5
3D body "QFN50_28TT.step": height 1, standoff 0, extent -2.501,-2.501 2.501,2.501